# Altium footprint library Pin Header WR-PHD_1.27mm.PcbLib: 31 footprints (part 1 of 2)
Each footprint in its own frame and in the unit in brackets; x right, y up, seen from the top. Pads: shape width x height; smd on the part's side, far side on the other; paste and mask are expansions set on the pad; w line width, h text height; cw(c..) or ccw(c..) is an arc to the next point about the centre after c.
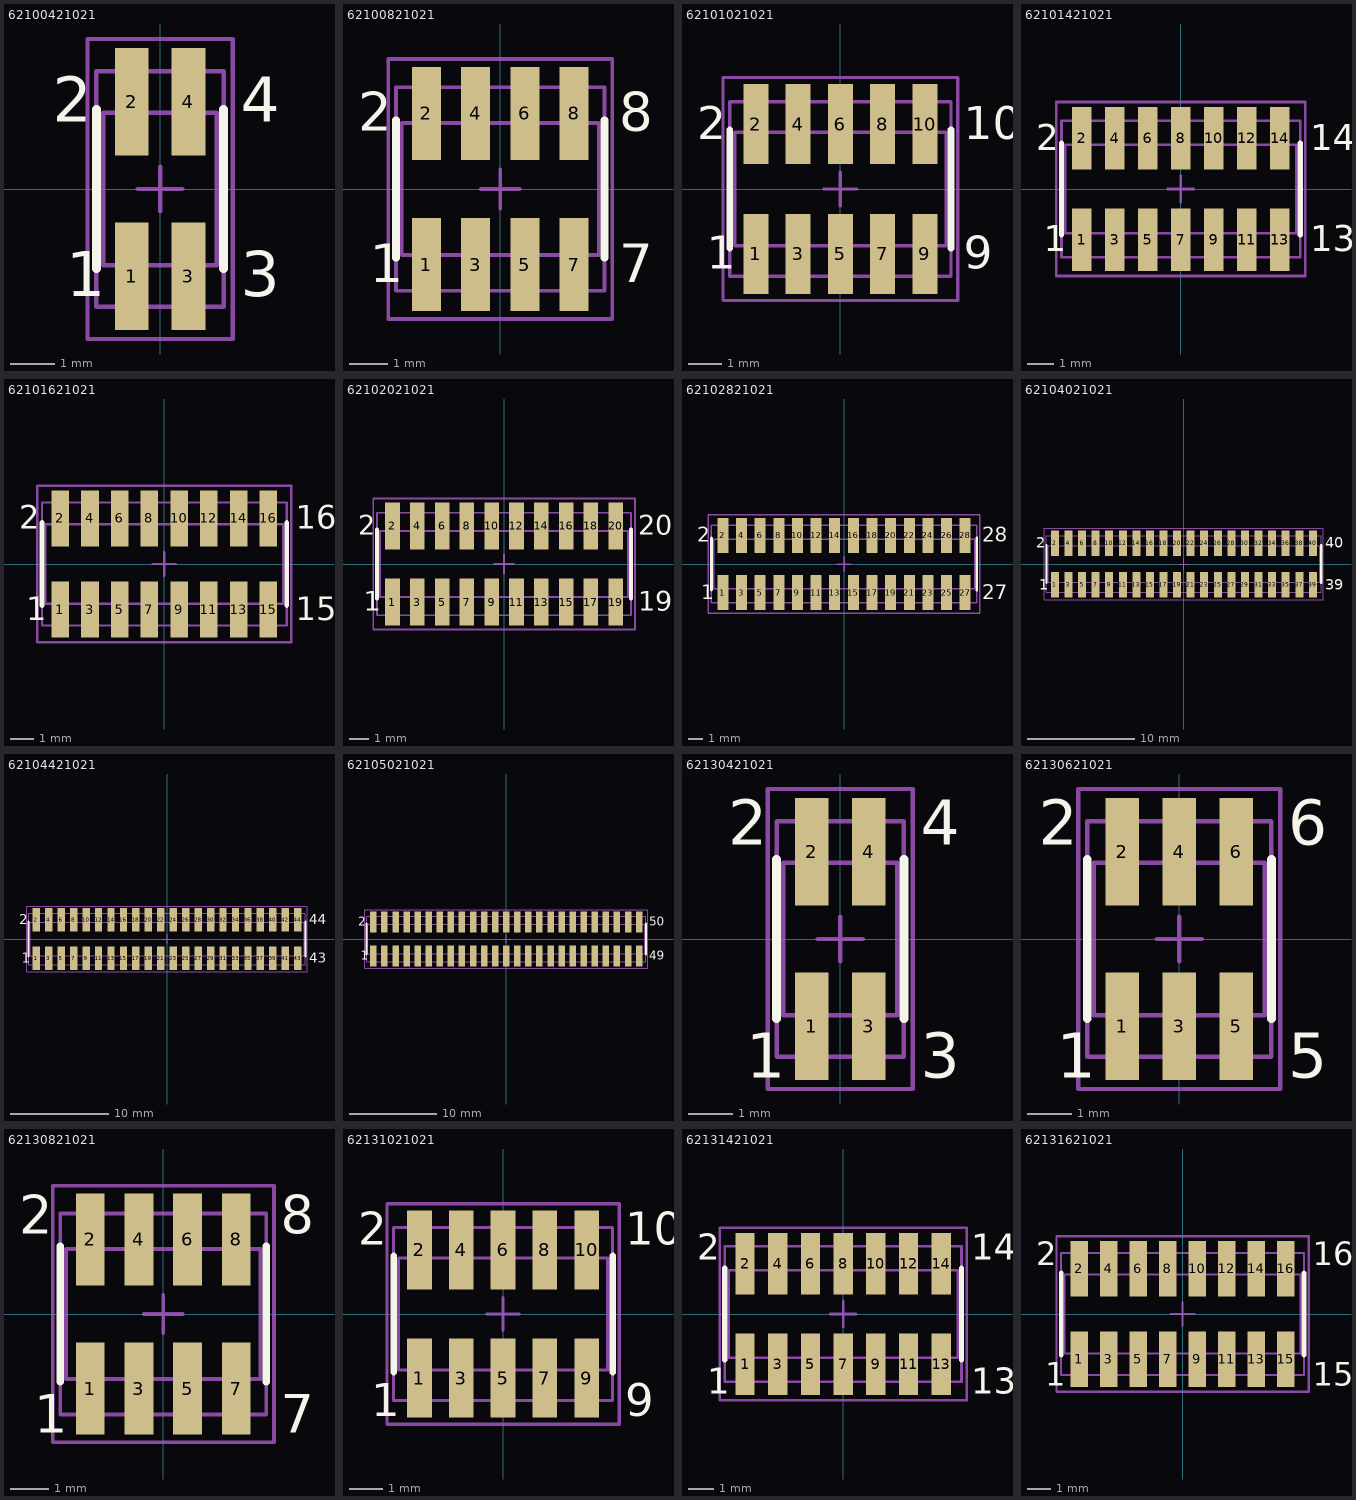
[diagram p0: the footprints below, top view; thin cyan lines are the x and y axes]

## 62100421021 [mm] "Pin Header, pitch 1.27 mm, SMD, Vertical, dual row, 4p"
height 6.55
pads (4):
  rect 0.75x2.4 smd: 1(-0.635,-1.95) 2(-0.635,1.95) 3(0.635,-1.95) 4(0.635,1.95)
Top Overlay:
  lines w0.2: -1.42,-1.775 -1.42,1.775 ; 1.42,-1.775 1.42,1.775
  text "1" at -2.1,-2.4 h1
  text "2" at -2.4,1.5 h1
  text "3" at 1.8,-2.4 h1
  text "4" at 1.8,1.5 h1
Mechanical 11:
  lines w0.1: -1.27,-1.7 -1.27,1.7 1.27,1.7 1.27,-1.7 -1.27,-1.7
Mechanical 13:
  lines w0.1: -1.42,-2.625 1.42,-2.625 1.42,2.625 -1.42,2.625 -1.42,-2.625
Mechanical 15:
  lines w0.1: -0.5,0 0.5,0 ; 0,-0.5 0,0.5 ; -1.62,-3.35 -1.62,3.35 1.62,3.35 1.62,-3.35 -1.62,-3.35
3D body "62100421021.stp": height 5.9, standoff 0, extent -1.27,-2.55 1.27,2.55

## 62100821021 [mm] "Pin Header, pitch 1.27 mm, SMD, Vertical, dual row, 8p"
height 6.55
pads (8):
  rect 0.75x2.4 smd: 1(-1.905,-1.95) 2(-1.905,1.95) 3(-0.635,-1.95) 4(-0.635,1.95) 5(0.635,-1.95) 6(0.635,1.95) 7(1.905,-1.95) 8(1.905,1.95)
Top Overlay:
  lines w0.2: -2.69,-1.775 -2.69,1.775 ; 2.69,-1.775 2.69,1.775
  text "1" at -3.37,-2.4 h1
  text "2" at -3.67,1.5 h1
  text "7" at 3.07,-2.4 h1
  text "8" at 3.07,1.5 h1
Mechanical 11:
  lines w0.1: -2.54,-1.7 -2.54,1.7 2.54,1.7 2.54,-1.7 -2.54,-1.7
Mechanical 13:
  lines w0.1: -2.69,-2.625 2.69,-2.625 2.69,2.625 -2.69,2.625 -2.69,-2.625
Mechanical 15:
  lines w0.1: -0.5,0 0.5,0 ; 0,-0.5 0,0.5 ; -2.89,-3.35 -2.89,3.35 2.89,3.35 2.89,-3.35 -2.89,-3.35
3D body "62100821021.stp": height 5.9, standoff -0.01, extent -2.54,-2.5 2.54,2.5

## 62101021021 [mm] "Pin Header, pitch 1.27 mm, SMD, Vertical, dual row, 10p"
height 6.55
pads (10):
  rect 0.75x2.4 smd: 1(-2.54,-1.95) 2(-2.54,1.95) 3(-1.27,-1.95) 4(-1.27,1.95) 5(0,-1.95) 6(0,1.95) 7(1.27,-1.95) 8(1.27,1.95) 9(2.54,-1.95) 10(2.54,1.95)
Top Overlay:
  lines w0.2: -3.325,-1.775 -3.325,1.775 ; 3.325,-1.775 3.325,1.775
  text "10" at 3.705,1.5 h1
  text "9" at 3.705,-2.4 h1
  text "1" at -4.005,-2.4 h1
  text "2" at -4.305,1.5 h1
Mechanical 11:
  lines w0.1: -3.175,-1.7 -3.175,1.7 3.175,1.7 3.175,-1.7 -3.175,-1.7
Mechanical 13:
  lines w0.1: -3.325,-2.625 3.325,-2.625 3.325,2.625 -3.325,2.625 -3.325,-2.625
Mechanical 15:
  lines w0.1: -0.5,0 0.5,0 ; 0,-0.5 0,0.5 ; -3.525,-3.35 -3.525,3.35 3.525,3.35 3.525,-3.35 -3.525,-3.35
3D body "62101021021.stp": height 5.9, standoff -0.01, extent -3.175,-2.5 3.175,2.5

## 62101421021 [mm] "Pin Header, pitch 1.27 mm, SMD, Vertical, dual row, 14p"
height 6.55
pads (14):
  rect 0.75x2.4 smd: 1(-3.81,-1.95) 2(-3.81,1.95) 3(-2.54,-1.95) 4(-2.54,1.95) 5(-1.27,-1.95) 6(-1.27,1.95) 7(0,-1.95) 8(0,1.95) 9(1.27,-1.95) 10(1.27,1.95) 11(2.54,-1.95) 12(2.54,1.95) 13(3.81,-1.95) 14(3.81,1.95)
Top Overlay:
  lines w0.2: -4.595,-1.775 -4.595,1.775 ; 4.595,-1.775 4.595,1.775
  text "14" at 4.975,1.5 h1
  text "13" at 4.975,-2.4 h1
  text "1" at -5.275,-2.4 h1
  text "2" at -5.575,1.5 h1
Mechanical 11:
  lines w0.1: -4.445,-1.7 -4.445,1.7 4.445,1.7 4.445,-1.7 -4.445,-1.7
Mechanical 13:
  lines w0.1: -4.595,-2.625 4.595,-2.625 4.595,2.625 -4.595,2.625 -4.595,-2.625
Mechanical 15:
  lines w0.1: -0.5,0 0.5,0 ; 0,-0.5 0,0.5 ; -4.795,-3.35 -4.795,3.35 4.795,3.35 4.795,-3.35 -4.795,-3.35
3D body "62101421021.stp": height 5.9, standoff -0.01, extent -4.445,-2.5 4.445,2.5

## 62101621021 [mm] "Pin Header, pitch 1.27 mm, SMD, Vertical, dual row, 16p"
height 6.55
pads (16):
  rect 0.75x2.4 smd: 1(-4.445,-1.95) 2(-4.445,1.95) 3(-3.175,-1.95) 4(-3.175,1.95) 5(-1.905,-1.95) 6(-1.905,1.95) 7(-0.635,-1.95) 8(-0.635,1.95) 9(0.635,-1.95) 10(0.635,1.95) 11(1.905,-1.95) 12(1.905,1.95) 13(3.175,-1.95) 14(3.175,1.95) 15(4.445,-1.95) 16(4.445,1.95)
Top Overlay:
  lines w0.2: -5.23,-1.775 -5.23,1.775 ; 5.23,-1.775 5.23,1.775
  text "16" at 5.61,1.5 h1
  text "15" at 5.61,-2.4 h1
  text "2" at -6.21,1.5 h1
  text "1" at -5.91,-2.4 h1
Mechanical 11:
  lines w0.1: -5.08,-1.7 5.08,-1.7 5.08,1.7 -5.08,1.7 -5.08,-1.7
Mechanical 13:
  lines w0.1: -5.23,-2.625 -5.23,2.625 5.23,2.625 5.23,-2.625 -5.23,-2.625
Mechanical 15:
  lines w0.1: -0.5,0 0.5,0 ; 0,-0.5 0,0.5 ; -5.43,-3.35 5.43,-3.35 5.43,3.35 -5.43,3.35 -5.43,-3.35
3D body "62101621021.stp": height 5.9, standoff -0.01, extent -5.08,-2.5 5.08,2.5

## 62102021021 [mm] "Pin Header, pitch 1.27 mm, SMD, Vertical, dual row, 20p"
height 6.55
pads (20):
  rect 0.75x2.4 smd: 1(-5.715,-1.95) 2(-5.715,1.95) 3(-4.445,-1.95) 4(-4.445,1.95) 5(-3.175,-1.95) 6(-3.175,1.95) 7(-1.905,-1.95) 8(-1.905,1.95) 9(-0.635,-1.95) 10(-0.635,1.95) 11(0.635,-1.95) 12(0.635,1.95) 13(1.905,-1.95) 14(1.905,1.95) 15(3.175,-1.95) 16(3.175,1.95) 17(4.445,-1.95) 18(4.445,1.95) 19(5.715,-1.95) 20(5.715,1.95)
Top Overlay:
  lines w0.2: -6.5,-1.775 -6.5,1.775 ; 6.5,-1.775 6.5,1.775
  text "20" at 6.88,1.5 h1
  text "19" at 6.88,-2.4 h1
  text "2" at -7.48,1.5 h1
  text "1" at -7.18,-2.4 h1
Mechanical 11:
  lines w0.1: -6.35,-1.7 6.35,-1.7 6.35,1.7 -6.35,1.7 -6.35,-1.7
Mechanical 13:
  lines w0.1: -6.5,-2.625 -6.5,2.625 6.5,2.625 6.5,-2.625 -6.5,-2.625
Mechanical 15:
  lines w0.1: -0.5,0 0.5,0 ; 0,-0.5 0,0.5 ; -6.7,-3.35 6.7,-3.35 6.7,3.35 -6.7,3.35 -6.7,-3.35
3D body "62102021021.stp": height 5.9, standoff -0.01, extent -6.35,-2.5 6.35,2.5

## 62102821021 [mm] "Pin Header, pitch 1.27 mm, SMD, Vertical, dual row, 28p"
height 6.55
pads (28):
  rect 0.75x2.4 smd: 1(-8.255,-1.95) 2(-8.255,1.95) 3(-6.985,-1.95) 4(-6.985,1.95) 5(-5.715,-1.95) 6(-5.715,1.95) 7(-4.445,-1.95) 8(-4.445,1.95) 9(-3.175,-1.95) 10(-3.175,1.95) 11(-1.905,-1.95) 12(-1.905,1.95) 13(-0.635,-1.95) 14(-0.635,1.95) 15(0.635,-1.95) 16(0.635,1.95) 17(1.905,-1.95) 18(1.905,1.95) 19(3.175,-1.95) 20(3.175,1.95) 21(4.445,-1.95) 22(4.445,1.95) 23(5.715,-1.95) 24(5.715,1.95) 25(6.985,-1.95) 26(6.985,1.95) 27(8.255,-1.95) 28(8.255,1.95)
Top Overlay:
  lines w0.2: -9.04,-1.775 -9.04,1.775 ; 9.04,-1.775 9.04,1.775
  text "28" at 9.42,1.5 h1
  text "27" at 9.42,-2.4 h1
  text "2" at -10.02,1.5 h1
  text "1" at -9.72,-2.4 h1
Mechanical 11:
  lines w0.1: -8.89,-1.7 8.89,-1.7 8.89,1.7 -8.89,1.7 -8.89,-1.7
Mechanical 13:
  lines w0.1: -9.04,-2.625 -9.04,2.625 9.04,2.625 9.04,-2.625 -9.04,-2.625
Mechanical 15:
  lines w0.1: -0.5,0 0.5,0 ; 0,-0.5 0,0.5 ; -9.24,-3.35 9.24,-3.35 9.24,3.35 -9.24,3.35 -9.24,-3.35
3D body "62102821021.stp": height 5.9, standoff -0.01, extent -8.89,-2.5 8.89,2.5

## 62104021021 [mm] "Pin Header, pitch 1.27 mm, SMD, Vertical, dual row, 40p"
height 6.55
pads (40):
  rect 0.75x2.4 smd: 1(-12.065,-1.95) 2(-12.065,1.95) 3(-10.795,-1.95) 4(-10.795,1.95) 5(-9.525,-1.95) 6(-9.525,1.95) 7(-8.255,-1.95) 8(-8.255,1.95) 9(-6.985,-1.95) 10(-6.985,1.95) 11(-5.715,-1.95) 12(-5.715,1.95) 13(-4.445,-1.95) 14(-4.445,1.95) 15(-3.175,-1.95) 16(-3.175,1.95) 17(-1.905,-1.95) 18(-1.905,1.95) 19(-0.635,-1.95) 20(-0.635,1.95) 21(0.635,-1.95) 22(0.635,1.95) 23(1.905,-1.95) 24(1.905,1.95) 25(3.175,-1.95) 26(3.175,1.95) 27(4.445,-1.95) 28(4.445,1.95) 29(5.715,-1.95) 30(5.715,1.95) 31(6.985,-1.95) 32(6.985,1.95) 33(8.255,-1.95) 34(8.255,1.95) 35(9.525,-1.95) 36(9.525,1.95) 37(10.795,-1.95) 38(10.795,1.95) 39(12.065,-1.95) 40(12.065,1.95)
Top Overlay:
  lines w0.2: -12.85,-1.775 -12.85,1.775 ; 12.85,-1.775 12.85,1.775
  text "1" at -13.53,-2.4 h1
  text "2" at -13.83,1.5 h1
  text "39" at 13.23,-2.4 h1
  text "40" at 13.23,1.5 h1
Mechanical 11:
  lines w0.1: -12.7,-1.7 -12.7,1.7 12.7,1.7 12.7,-1.7 -12.7,-1.7
Mechanical 13:
  lines w0.1: -12.85,-2.625 12.85,-2.625 12.85,2.625 -12.85,2.625 -12.85,-2.625
Mechanical 15:
  lines w0.1: -0.5,0 0.5,0 ; 0,-0.5 0,0.5 ; -13.05,-3.35 -13.05,3.35 13.05,3.35 13.05,-3.35 -13.05,-3.35
3D body "62104021021.stp": height 5.9, standoff -0.01, extent -12.7,-2.5 12.7,2.5

## 62104421021 [mm] "Pin Header, pitch 1.27 mm, SMD, Vertical, dual row, 44p"
height 6.55
pads (44):
  rect 0.75x2.4 smd: 1(-13.335,-1.95) 2(-13.335,1.95) 3(-12.065,-1.95) 4(-12.065,1.95) 5(-10.795,-1.95) 6(-10.795,1.95) 7(-9.525,-1.95) 8(-9.525,1.95) 9(-8.255,-1.95) 10(-8.255,1.95) 11(-6.985,-1.95) 12(-6.985,1.95) 13(-5.715,-1.95) 14(-5.715,1.95) 15(-4.445,-1.95) 16(-4.445,1.95) 17(-3.175,-1.95) 18(-3.175,1.95) 19(-1.905,-1.95) 20(-1.905,1.95) 21(-0.635,-1.95) 22(-0.635,1.95) 23(0.635,-1.95) 24(0.635,1.95) 25(1.905,-1.95) 26(1.905,1.95) 27(3.175,-1.95) 28(3.175,1.95) 29(4.445,-1.95) 30(4.445,1.95) 31(5.715,-1.95) 32(5.715,1.95) 33(6.985,-1.95) 34(6.985,1.95) 35(8.255,-1.95) 36(8.255,1.95) 37(9.525,-1.95) 38(9.525,1.95) 39(10.795,-1.95) 40(10.795,1.95) 41(12.065,-1.95) 42(12.065,1.95) 43(13.335,-1.95) 44(13.335,1.95)
Top Overlay:
  lines w0.2: -14.12,-1.775 -14.12,1.775 ; 14.12,-1.775 14.12,1.775
  text "2" at -15.1,1.5 h1
  text "1" at -14.8,-2.4 h1
  text "43" at 14.5,-2.4 h1
  text "44" at 14.5,1.5 h1
Mechanical 11:
  lines w0.1: -13.97,-1.7 13.97,-1.7 13.97,1.7 -13.97,1.7 -13.97,-1.7
Mechanical 13:
  lines w0.1: -14.12,-2.625 -14.12,2.625 14.12,2.625 14.12,-2.625 -14.12,-2.625
Mechanical 15:
  lines w0.1: -0.5,0 0.5,0 ; 0,-0.5 0,0.5 ; -14.32,-3.35 14.32,-3.35 14.32,3.35 -14.32,3.35 -14.32,-3.35
3D body "62104421021.stp": height 5.9, standoff -0.01, extent -13.97,-2.5 13.97,2.5

## 62105021021 [mm] "Pin Header, pitch 1.27 mm, SMD, Vertical, dual row, 50p"
height 6.55
pads (50):
  rect 0.75x2.4 smd: 1(-15.24,-1.95) 2(-15.24,1.95) 3(-13.97,-1.95) 4(-13.97,1.95) 5(-12.7,-1.95) 6(-12.7,1.95) 7(-11.43,-1.95) 8(-11.43,1.95) 9(-10.16,-1.95) 10(-10.16,1.95) 11(-8.89,-1.95) 12(-8.89,1.95) 13(-7.62,-1.95) 14(-7.62,1.95) 15(-6.35,-1.95) 16(-6.35,1.95) 17(-5.08,-1.95) 18(-5.08,1.95) 19(-3.81,-1.95) 20(-3.81,1.95) 21(-2.54,-1.95) 22(-2.54,1.95) 23(-1.27,-1.95) 24(-1.27,1.95) 25(0,-1.95) 26(0,1.95) 27(1.27,-1.95) 28(1.27,1.95) 29(2.54,-1.95) 30(2.54,1.95) 31(3.81,-1.95) 32(3.81,1.95) 33(5.08,-1.95) 34(5.08,1.95) 35(6.35,-1.95) 36(6.35,1.95) 37(7.62,-1.95) 38(7.62,1.95) 39(8.89,-1.95) 40(8.89,1.95) 41(10.16,-1.95) 42(10.16,1.95) 43(11.43,-1.95) 44(11.43,1.95) 45(12.7,-1.95) 46(12.7,1.95) 47(13.97,-1.95) 48(13.97,1.95) 49(15.24,-1.95) 50(15.24,1.95)
Top Overlay:
  lines w0.2: -16.025,-1.775 -16.025,1.775 ; 16.025,-1.775 16.025,1.775
  text "2" at -17.005,1.5 h1
  text "1" at -16.705,-2.4 h1
  text "49" at 16.405,-2.4 h1
  text "50" at 16.405,1.5 h1
Mechanical 11:
  lines w0.1: -15.875,-1.7 15.875,-1.7 15.875,1.7 -15.875,1.7 -15.875,-1.7
Mechanical 13:
  lines w0.1: -16.025,-2.625 -16.025,2.625 16.025,2.625 16.025,-2.625 -16.025,-2.625
Mechanical 15:
  lines w0.1: -0.5,0 0.5,0 ; 0,-0.5 0,0.5 ; -16.225,-3.35 16.225,-3.35 16.225,3.35 -16.225,3.35 -16.225,-3.35
3D body "62105021021.stp": height 5.9, standoff -0.01, extent -15.875,-2.5 15.875,2.5

## 62130421021 [mm] "Pin Header, pitch 1.27 mm, SMD, Vertical, dual row, 4p"
height 6.1
pads (4):
  rect 0.75x2.4 smd: 1(-0.635,-1.95) 2(-0.635,1.95) 3(0.635,-1.95) 4(0.635,1.95)
Top Overlay:
  lines w0.2: -1.42,-1.775 -1.42,1.775 ; 1.42,-1.775 1.42,1.775
  text "1" at -2.1,-3.1 h1
  text "3" at 1.8,-3.1 h1
  text "2" at -2.5,2.1 h1
  text "4" at 1.8,2.1 h1
Mechanical 11:
  lines w0.1: -1.27,-1.7 -1.27,1.7 1.27,1.7 1.27,-1.7 -1.27,-1.7
Mechanical 13:
  lines w0.1: -1.42,-2.625 1.42,-2.625 1.42,2.625 -1.42,2.625 -1.42,-2.625
Mechanical 15:
  lines w0.1: -0.5,0 0.5,0 ; 0,-0.5 0,0.5 ; -1.62,-3.35 1.62,-3.35 1.62,3.35 -1.62,3.35 -1.62,-3.35
3D body "62130421021.stp": height 5.9, standoff 0, extent -1.27,-2.55 1.27,2.55

## 62130621021 [mm] "Pin Header, pitch 1.27 mm, SMD, Vertical, dual row, 6p"
height 6.1
pads (6):
  rect 0.75x2.4 smd: 1(-1.27,-1.95) 2(-1.27,1.95) 3(0,-1.95) 4(0,1.95) 5(1.27,-1.95) 6(1.27,1.95)
Top Overlay:
  lines w0.2: -2.055,-1.775 -2.055,1.775 ; 2.055,-1.775 2.055,1.775
  text "6" at 2.435,2.1 h1
  text "5" at 2.435,-3.1 h1
  text "2" at -3.135,2.1 h1
  text "1" at -2.735,-3.1 h1
Mechanical 11:
  lines w0.1: -1.905,-1.7 1.905,-1.7 1.905,1.7 -1.905,1.7 -1.905,-1.7
Mechanical 13:
  lines w0.1: -2.055,-2.625 -2.055,2.625 2.055,2.625 2.055,-2.625 -2.055,-2.625
Mechanical 15:
  lines w0.1: -0.5,0 0.5,0 ; 0,-0.5 0,0.5 ; -2.255,-3.35 -2.255,3.35 2.255,3.35 2.255,-3.35 -2.255,-3.35
3D body "62130621021.stp": height 5.9, standoff 0, extent -1.905,-2.55 1.905,2.55

## 62130821021 [mm] "Pin Header, pitch 1.27 mm, SMD, Vertical, dual row, 8p"
height 6.1
pads (8):
  rect 0.75x2.4 smd: 1(-1.905,-1.95) 2(-1.905,1.95) 3(-0.635,-1.95) 4(-0.635,1.95) 5(0.635,-1.95) 6(0.635,1.95) 7(1.905,-1.95) 8(1.905,1.95)
Top Overlay:
  lines w0.2: -2.69,-1.775 -2.69,1.775 ; 2.69,-1.775 2.69,1.775
  text "8" at 3.07,2.1 h1
  text "7" at 3.07,-3.1 h1
  text "2" at -3.77,2.1 h1
  text "1" at -3.37,-3.1 h1
Mechanical 11:
  lines w0.1: -2.54,-1.7 2.54,-1.7 2.54,1.7 -2.54,1.7 -2.54,-1.7
Mechanical 13:
  lines w0.1: -2.69,-2.625 -2.69,2.625 2.69,2.625 2.69,-2.625 -2.69,-2.625
Mechanical 15:
  lines w0.1: -0.5,0 0.5,0 ; 0,-0.5 0,0.5 ; -2.89,-3.35 -2.89,3.35 2.89,3.35 2.89,-3.35 -2.89,-3.35
3D body "62130821021.stp": height 5.9, standoff 0, extent -2.54,-2.55 2.54,2.55

## 62131021021 [mm] "Pin Header, pitch 1.27 mm, SMD, Vertical, dual row, 10p"
height 6.1
pads (10):
  rect 0.75x2.4 smd: 1(-2.54,-1.95) 2(-2.54,1.95) 3(-1.27,-1.95) 4(-1.27,1.95) 5(0,-1.95) 6(0,1.95) 7(1.27,-1.95) 8(1.27,1.95) 9(2.54,-1.95) 10(2.54,1.95)
Top Overlay:
  lines w0.2: -3.325,-1.775 -3.325,1.775 ; 3.325,-1.775 3.325,1.775
  text "10" at 3.705,2.1 h1
  text "9" at 3.705,-3.1 h1
  text "2" at -4.405,2.1 h1
  text "1" at -4.005,-3.1 h1
Mechanical 11:
  lines w0.1: -3.175,-1.7 3.175,-1.7 3.175,1.7 -3.175,1.7 -3.175,-1.7
Mechanical 13:
  lines w0.1: -3.325,-2.625 -3.325,2.625 3.325,2.625 3.325,-2.625 -3.325,-2.625
Mechanical 15:
  lines w0.1: -0.5,0 0.5,0 ; 0,-0.5 0,0.5 ; -3.525,-3.35 -3.525,3.35 3.525,3.35 3.525,-3.35 -3.525,-3.35
3D body "62131021021.stp": height 5.9, standoff 0, extent -3.175,-2.55 3.175,2.55

## 62131421021 [mm] "Pin Header, pitch 1.27 mm, SMD, Vertical, dual row, 14p"
height 6.1
pads (14):
  rect 0.75x2.4 smd: 1(-3.81,-1.95) 2(-3.81,1.95) 3(-2.54,-1.95) 4(-2.54,1.95) 5(-1.27,-1.95) 6(-1.27,1.95) 7(0,-1.95) 8(0,1.95) 9(1.27,-1.95) 10(1.27,1.95) 11(2.54,-1.95) 12(2.54,1.95) 13(3.81,-1.95) 14(3.81,1.95)
Top Overlay:
  lines w0.2: -4.595,-1.775 -4.595,1.775 ; 4.595,-1.775 4.595,1.775
  text "14" at 4.975,2.1 h1
  text "13" at 4.975,-3.1 h1
  text "1" at -5.275,-3.1 h1
  text "2" at -5.675,2.1 h1
Mechanical 11:
  lines w0.1: -4.445,-1.7 -4.445,1.7 4.445,1.7 4.445,-1.7 -4.445,-1.7
Mechanical 13:
  lines w0.1: -4.595,-2.625 4.595,-2.625 4.595,2.625 -4.595,2.625 -4.595,-2.625
Mechanical 15:
  lines w0.1: -0.5,0 0.5,0 ; 0,-0.5 0,0.5 ; -4.795,-3.35 4.795,-3.35 4.795,3.35 -4.795,3.35 -4.795,-3.35
3D body "62131421021.stp": height 5.9, standoff 0, extent -4.445,-2.55 4.445,2.55

## 62131621021 [mm] "Pin Header, pitch 1.27 mm, SMD, Vertical, dual row, 16p"
height 6.1
pads (16):
  rect 0.75x2.4 smd: 1(-4.445,-1.95) 2(-4.445,1.95) 3(-3.175,-1.95) 4(-3.175,1.95) 5(-1.905,-1.95) 6(-1.905,1.95) 7(-0.635,-1.95) 8(-0.635,1.95) 9(0.635,-1.95) 10(0.635,1.95) 11(1.905,-1.95) 12(1.905,1.95) 13(3.175,-1.95) 14(3.175,1.95) 15(4.445,-1.95) 16(4.445,1.95)
Top Overlay:
  lines w0.2: -5.23,-1.775 -5.23,1.775 ; 5.23,-1.775 5.23,1.775
  text "16" at 5.61,2.1 h1
  text "15" at 5.61,-3.1 h1
  text "1" at -5.91,-3.1 h1
  text "2" at -6.31,2.1 h1
Mechanical 11:
  lines w0.1: -5.08,-1.7 -5.08,1.7 5.08,1.7 5.08,-1.7 -5.08,-1.7
Mechanical 13:
  lines w0.1: -5.23,-2.625 5.23,-2.625 5.23,2.625 -5.23,2.625 -5.23,-2.625
Mechanical 15:
  lines w0.1: -0.5,0 0.5,0 ; 0,-0.5 0,0.5 ; -5.43,-3.35 5.43,-3.35 5.43,3.35 -5.43,3.35 -5.43,-3.35
3D body "62131621021.stp": height 5.9, standoff 0, extent -5.08,-2.55 5.08,2.55